# Altium schematic symbol library Schematic_Library_1.SchLib: 20 symbols
Pins are listed as number, name and electrical type; pins without a type are passive.

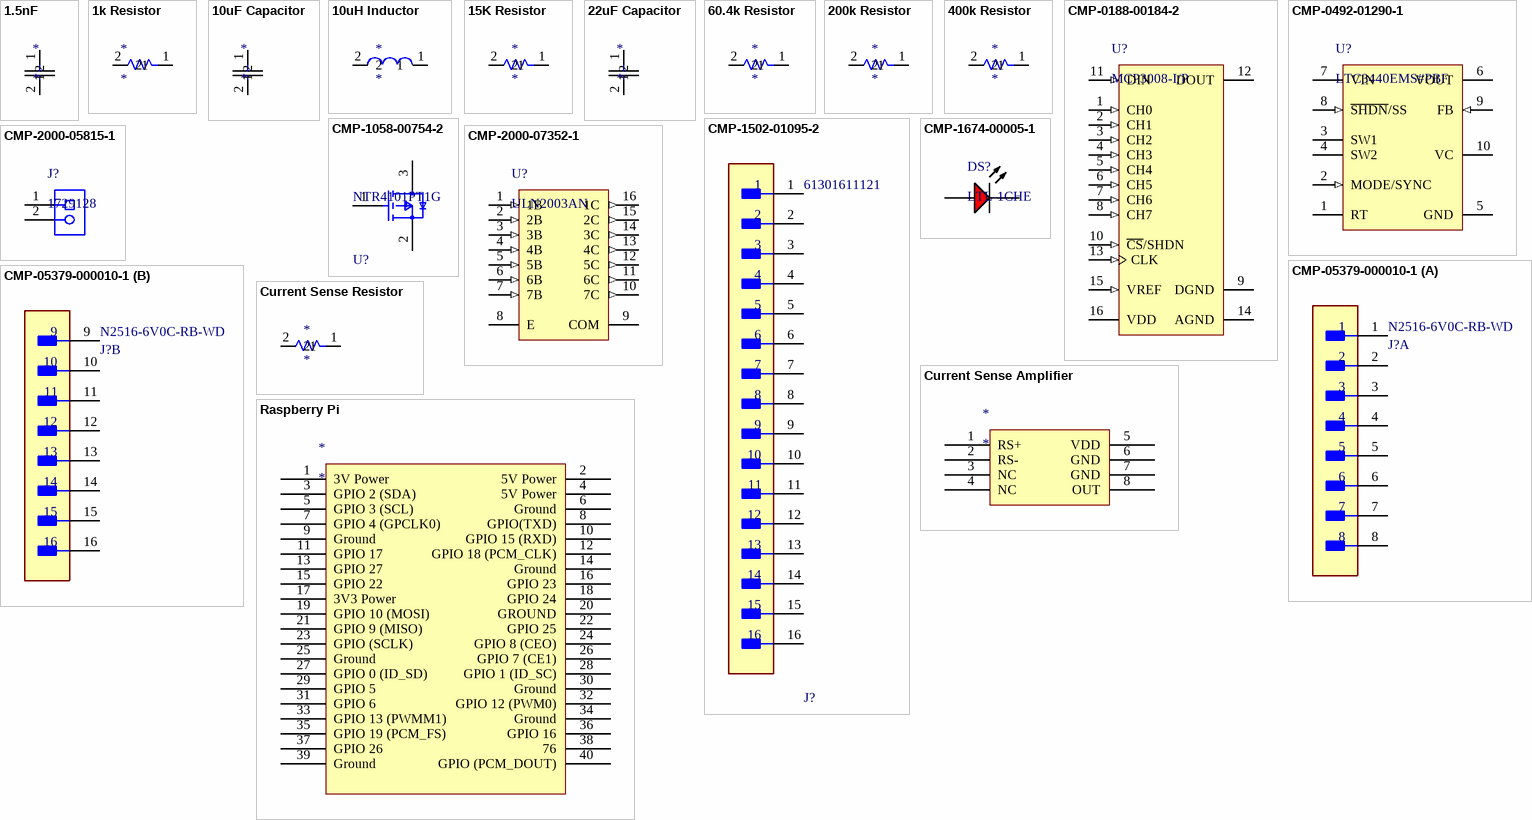
[diagram p0: symbols 1.5nF to Raspberry Pi]

## 1.5nF
designator *
footprint 1.5nF Capacitor
pins: 1, 2

## 1k Resistor
designator *
footprint PCBComponent_1
pins: 1, 2

## 10uF Capacitor
designator *
footprint 10uF Capacitor
pins: 1, 2

## 10uH Inductor
designator *
footprint 10uH Inductor
pins: 1, 2

## 15K Resistor
designator *
footprint 15k Resistor
pins: 1, 2

## 22uF Capacitor
designator *
footprint 22uF Capacitor
pins: 1, 2

## 60.4k Resistor
designator *
footprint PCBComponent_1
pins: 1, 2

## 200k Resistor
designator *
footprint 200K - duplicate
pins: 1, 2

## 400k Resistor
designator *
footprint 400K Resistor
pins: 1, 2

## CMP-0188-00184-2
designator U?, comment MCP3008-I/P
2.7V 4-Channel/8-Channel 10-Bit A/D Converters with SPI Serial Interface, 16-Pin PDIP, Industrial Temperature; ComponentLink1URL: http://www.microchip.com/; ComponentLink2URL: http://ww1.microchip.com/downloads/en/DeviceDoc/21295d.pdf; PackageVersion: revBB, Aug-2009; ComponentLink3URL: http://www.microchip.com/stellent/groups/techpub_sg/documents/packagingspec/en012702.pdf; DatasheetVersion: revD, Dec-2008; PackageDescription: 16-Lead Plastic Dual In-Line (P) - 300 mil Body [PDIP]; ComponentLink3Description: Package Specification; Code_JEDEC: MS-001-BB; ComponentLink1Description: Manufacturer URL; RevisionNote: URLs added.; PackageReference: PDIP300-P16; ComponentLink2Description: Datasheet
footprint PDIP300-P16 (DIP, 16-Leads, Row Spacing 7.62mm, Pitch 2.54mm, Body 19.2x6.6mm)
pins: 1 CH0 (in), 2 CH1 (in), 3 CH2 (in), 4 CH3 (in), 5 CH4 (in), 6 CH5 (in), 7 CH6 (in), 8 CH7 (in), 9 DGND (power), 10 ~{CS}/SHDN (in), 11 DIN (in), 12 DOUT (hiz), 13 CLK (in), 14 AGND (power), 15 VREF (in), 16 VDD (power)

## CMP-0492-01290-1
designator U?, comment LTC3440EMS#PBF
Micropower Synchronous Buck-Boost DC/DC Converter, 10-pin SOP (MS-10), -40 to 85 degC, Pb-Free; Manufacturer: Linear Technology; Frequency Sync Range: 300kHz - 2MHz; Number of Outputs: 1; DatasheetVersion: Rev. B; PackageVersion: Rev. E, 06/2010; ComponentLink2Description: Datasheet; ComponentLink1URL: http://www.linear.com/; ComponentLink3URL: http://cds.linear.com/docs/en/packaging/05081661_F_MS.pdf; PackageDescription: 10-Pin Plastic MSOP, Body 3 x 3 mm, Pitch 0.5 mm; ComponentLink1Description: Manufacturer URL; Mounting Technology: Surface Mount; RoHS: TRUE; ComponentLink3Description: Package Specification; ComponentLink2URL: http://cds.linear.com/docs/en/datasheet/3440fb.pdf; PartNumber: LTC3440EMS#PBF; PackageReference: MS-10
footprint LT-MS-10_N (SOP, 10-Leads, Body 3.1x3.1mm, Pitch 0.5mm, IPC Medium Density)
footprint LT-MS-10_L (SOP, 10-Leads, Body 3.1x3.1mm, Pitch 0.5mm, IPC High Density)
footprint LT-MS-10_M (SOP, 10-Leads, Body 3.1x3.1mm, Pitch 0.5mm, IPC Low Density)
pins: 1 RT "Timing Resistor to Program the Oscillator Frequency. The programming frequency range is 300kHz to 2MHz.", 2 MODE/SYNC (in) "MODE/SYNC = External CLK : Synchronization of the internal oscillator. A clock frequency of twice the desired switching frequency and with a pulse width between 100ns and 2us is applied. The oscillator free running frequency (See Datasheet)", 3 SW1 "Switch Pin Where the Internal Switches A and B are Connected. Connect inductor from SW1 to SW2. An optional Schottky diode can be connected from SW1 to ground. Minimize trace length to keep EMI down.", 4 SW2 "Switch Pin Where the Internal Switches C and D are Connected. For applications with output volt-ages over 4.3V, a Schottky diode is required from SW2 to VOUT to ensure the SW pin does not exhibit excess voltage.", 5 GND (power) "Signal and Power Ground for the IC.", 6 VOUT (power) "Output of the Synchronous Rectifier. A filtercapacitor is placed from VOUT to GND.", 7 VIN (power) "Input Supply Pin. Internal VCC for the IC. A ceramic bypass capacitor as close to the VIN pin and GND (Pin 5) is required.", 8 ~{SHDN}/SS (in) "Combined Soft-Start and Shutdown. Grounding this pin shuts down the IC. Tie to >1.5V to enable the IC and > 2.5V to ensure the error amp is not clamped from soft-start. An RC from the shutdown command signal to this pin will (See Datasheet)", 9 FB (in) "Feedback Pin. Connect resistor divider tap here. The output voltage can be adjusted from 2.5V to 5.5V. The feedback reference voltage is typically 1.22V.", 10 VC "Error Amp Output. A frequency compensation network is connected from this pin to the FB pin to compensate the loop. See the section “Compensating the Feedback Loop” for guidelines."

## CMP-1058-00754-2
designator U?, comment NTR4101PT1G
MOSFET P-CH 20V 1.8A SOT-23; Threshold Voltage: -720mV; Rise Time: 12.6ns; Turn-Off Delay Time: 30.2ns; Voltage Rating (DC): -20V; Input Capacitance: 675pF; Power Dissipation: 730mW; Current Rating: -3.2A; Turn-On Delay Time: 7.5ns; Gate to Source Voltage (Vgs): 8V; Element Configuration: Single; Number of Elements: 1; On-State Resistance: 70MR; Rds On Max: 85mR; Drain to Source Resistance: 112mR; Height: 0.94mm; Min Operating Temperature: -55°C; Lead Free: Lead Free; Fall Time: 12.6ns; Nominal Vgs: -720mV; REACH SVHC: No SVHC; Number of Pins: 3; Contact Plating: Tin; Case/Package: SOT-23-3; Radiation Hardening: No; Length: 2.9mm; Width: 1.3mm; Package Quantity: 1; Max Operating Temperature: 150°C; Drain to Source Breakdown Voltage: -20V; Max Power Dissipation: 730mW; Packaging: Tape and Reel; Drain to Source Voltage (Vdss): 20V; Continuous Drain Current (ID): -3.2A
footprint FP-318-08-MFG
footprint FP-318-08-IPC_C
footprint FP-318-08-IPC_B
footprint FP-318-08-IPC_A
pins: 1 Gate, 2 Source, 3 Drain

## CMP-1502-01095-2
designator J?, comment 61301611121
CONN HEADER VERT 16POS 2.54MM; Pitch: 0.1inch; Voltage Rating: 250V; Number of Contacts: 16; Gender: Male; Flammability Rating: UL94 V-0; Fastening Type: Pull; Contact Plating: Gold; Termination: Solder; Contact Type: Male Pin; Number of Rows: 1; Max Operating Temperature: 105°C; Insulation Color: Black; Min Operating Temperature: -40°C; Mount: Through Hole; Contact Mating Length: 0.236inch; Contact Finish - Mating: GOLD; Insulation Material: Nylon; Color: Black; Packaging: Bulk; Number of Positions: 16; RoHS Compliant: Yes; Series: WR-PHD; Connector Type: Header; Contact Material: Copper Alloy; Contact Shape: Square
footprint 16-FP-61301611121-MFG
pins: 1, 2, 3, 4, 5, 6, 7, 8, 9, 10, 11, 12, 13, 14, 15, 16

## CMP-1674-00005-1
designator DS?, comment LTL-1CHE
Radial LED, 12.6 mcd, 20 mA, 2 V, -55 to 100 degC, 2-Pin THD, RoHS, Bulk; Shielding: Unshielded; Resistance: 0.045 Ohm; Current Rating: 3.6 A; Tolerance: 20%; PackageReference: LTL-1CHE; PackageDescription: 2-Pin Through Hole Device, Dia 3.8 mm, Pitch 2.54 mm; Case\Package: Radial; Length: 0.97 inch; Width: 0.62 inch; Height: 1.1 inch; Radiation Hardening: No; Lead Pitch: 11.44 mm; ComponentLink1URL: http://www.us.liteon.com/; ComponentLink1Description: Manufacturer URL; RoHSCompliant: true; Packaging: Tray; Mount: Through Hole; Min Operating Temperature: -40 degC; Max Operating Temperature: 130 degC; ComponentLink2URL: https://datasheet.ciiva.com/15117/getdatasheetpartid-187746-15117985.pdf; Package Quantity: 55; ComponentLink2Description: Datasheet; DatasheetVersion: Dec-03
footprint INDPR60-254-520X380X650 (THD, 2-Leads, Dia 3.8mm, Pitch 2.54mm)
pins: 1 A, 2 K

## CMP-2000-05815-1
designator J?, comment 1729128
PCB Terminal Block, 13.5 A, 400 V, 2-Pin THD, RoHS, Bulk; Manufacturer: Phoenix Contact; Package Version: 03/2015; No. of Rows: 1; Pitch: 5.08mm; No. of Positions: 2; Voltage Rating: 400V; Current Rating: 13500mA; Manufacturer URL: http://www.phoenixcontact.com/; Datasheet URL: https://datasheet.ciiva.com/16046/1729128-16046181.pdf; RoHS: TRUE; Package URL: https://www.phoenixcontact.com/online/portal/pi/pxc/product_detail_page/!ut/p/b1/3VdJjqNKFDxLH8AFycySyWY2ozFsEPOMMQaDOX1XedGL_1Vdm5YXJleknhSKeBkvI6EA8ncAo3AYoDhBQGco6KN7VURTdemj9us_IEKEZo_YHiPAEWEFmDGOHMORkqKYCORBZxgL7ZoaZYcbFFUZ3fqxSY6GOuxydWUuHqz1ynmMFygu583Bob0Ewr6Sd_l-5m-kAueHiB0jpRwZwe58wwtkpxtMYd_LmGcDRU02dRNEyWt6Y2ti5pSyJ_reIkzIulrqApdnbT11V5jnCKbYNCvhEM1MCpPByat_X379-iThf08CI5GfOPqfBeS3BRoBOdD55AKVv0iLwCMq-2BrzXWSGRH7pUGD9uwXQjiph3xL0DKQwdGa0JImiIOmBNOestqgwTHSSs2oOep-78apyXQBvNi8ZLaFjvjWvcaUEBu0MC6Wbe-d6mB0FAebo2lUWinqYaZs5DAYzV0RP9yitUjnGJ0iI9xhZkT42OCQNUJJhkgWINNQLP2JFP6OpMg3JCVg70jqHT0lvKOnhHf0lPuOnnLf0VPuWx6_dxwUIvwk5WMkT0kLL1mh61l2yZVSzG3pYV_bqo-mj6uMKwKwdnnW8Jh5RTOJzMOA5c-eJDaZQw4mTMPH02PvS_ZAqNVjVTo2WyYLkwH_KU1mmmG5kjRhDqPXLwwVHvVOjCM60-fpXvTDfMGW1PVFVS1r4e4yVDk4ZdNbkUHvqPqQSeian4UD39fNKmachqdJ1NJbyk8rXT9mXTvPk3oE5meulKGgiruPJek-4I9hTT6G8ZLOyRSm2RRVbThERQad5OS28hdt4YW4vG0stgYYzsWsK4_7y6DZMjJSCqri1kyiZR5vD7pwIrNR7QwPHTcLTI5qT7eRlpHrdGiupYlqQDJ7zy_CND8fWWBoLRXxk1RVcXiBQwbTD4Xi7KL-FuO94t9xaqweXzH; PartNumber: 1729128; Package Description: 2-Pin Through Hole Device, Body 8.1 x 10.16 mm, Pitch 5.08 mm; Datasheet Version: 12/2013; Mounting Technology: ThroughHole; Orientation: Horizontal; Package Reference: 1729128-2; Packing: Bulk
footprint Wire To Board (Receptacle, 2-Leads, Body 8.1x10.16mm, Pitch 5.08mm)
pins: 1, 2

## CMP-2000-07352-1
designator U?, comment ULN2003AN
High-Voltage, High-Current Darlington Transistor Array, 50 V, 500 mA, -20 to 70 degC, 16-Pin PDIP (N), Pb-Free (RoHS), Tube; Manufacturer: TexasInstruments; Maximum Collector Emitter Saturation Voltage: 1.1@100mA|1.3@200mA|1.6@350mAV; Peak DC Collector Current: 0.5A; Package Version: 4040049/E, 12/2002; Configuration: Array7; Maximum Collector Emitter Voltage: 50V; Rad Hard: No; Mounting: ThroughHole; Datasheet URL: http://www.ti.com/general/docs/lit/getliterature.tsp?genericPartNumber=uln2003a&fileType=pdf; Package: 16PDIP; Package Reference: N16; Datasheet Version: Rev. O, 01/2016; Mounting Technology: ThroughHole; Package Description: 16-Pin Plastic In-Line, Body 19.305 x 6.35 mm, Pitch 2.54 mm; Manufacturer URL: http://www.ti.com/; Type: NPN; Category: DarlingtonBJT; Package URL: http://www.ti.com/litv/pdf/mpdi002c; Packaging: Rail/Tube
footprint N0016A (DIP, 16-Leads, Body 19.7x6.6mm, Pitch 2.54mm)
pins: 1 1B (in) "Darlington base input", 2 2B (in) "Darlington base input", 3 3B (in) "Darlington base input", 4 4B (in) "Darlington base input", 5 5B (in) "Darlington base input", 6 6B (in) "Darlington base input", 7 7B (in) "Darlington base input", 8 E "Common emitter shared by all channels (typically tied to ground)", 9 COM "Common cathode node for flyback diodes (required for inductive loads)", 10 7C (out) "Darlington collector output", 11 6C (out) "Darlington collector output", 12 5C (out) "Darlington collector output", 13 4C (out) "Darlington collector output", 14 3C (out) "Darlington collector output", 15 2C (out) "Darlington collector output", 16 1C (out) "Darlington collector output"

## CMP-05379-000010-1
designator J?, comment N2516-6V0C-RB-WD
CONN HEADER SMD 16POS 2.54MM; Row Spacing: 0.1inch; Current Rating: 1.75A; Number of Positions: 16; Gender: Male; Approvals: UL; Connector Type: Male Pin; Housing Color: Black; Length: 27.64mm; Case/Package: Molded; Packaging: Tape and Reel; Max Operating Temperature: 105°C; Orientation: Straight; Termination: Solder; Flammability Rating: UL94 V-0; Number of Rows: 2; Number of Contacts: 16; Depth: 11.18mm; Mount: Surface Mount; Contact Plating: Gold; Min Operating Temperature: -55°C; Max Current Rating: 1.75A; Contact Type: Male Pin; Series: 2500; Contact Material: Copper Alloy; Housing Material: Polychlorinated; Color: Black; Contact Mating Length: 0.243inch; Pitch: 2.54mm; Package Quantity: 1
footprint FP-N2516-6V0C-RB-WD-MFG
part A pins: 1, 2, 3, 4, 5, 6, 7, 8
part B pins: 9, 10, 11, 12, 13, 14, 15, 16

## Current Sense Amplifier
designator *
footprint Current Sense Amplifier
pins: 1 RS+, 2 RS-, 3 NC, 4 NC, 5 VDD, 6 GND, 7 GND, 8 OUT

## Current Sense Resistor
designator *
footprint Current Sense
pins: 1, 2

## Raspberry Pi
designator *
pins: 1 3V Power, 2 5V Power, 3 GPIO 2 (SDA), 4 5V Power, 5 GPIO 3 (SCL), 6 Ground, 7 GPIO 4 (GPCLK0), 8 GPIO(TXD), 9 Ground, 10 GPIO 15 (RXD), 11 GPIO 17, 12 GPIO 18 (PCM_CLK), 13 GPIO 27, 14 Ground, 15 GPIO 22, 16 GPIO 23, 17 3V3 Power, 18 GPIO 24, 19 GPIO 10 (MOSI), 20 GROUND, 21 GPIO 9 (MISO), 22 GPIO 25, 23 GPIO (SCLK), 24 GPIO 8 (CEO), 25 Ground, 26 GPIO 7 (CE1), 27 GPIO 0 (ID_SD), 28 GPIO 1 (ID_SC), 29 GPIO 5, 30 Ground, 31 GPIO 6, 32 GPIO 12 (PWM0), 33 GPIO 13 (PWMM1), 34 Ground, 35 GPIO 19 (PCM_FS), 36 GPIO 16, 37 GPIO 26, 38 76, 39 Ground, 40 GPIO (PCM_DOUT)